# Altium footprint library Diodo.PcbLib: 39 footprints (part 2 of 3)
Each footprint in its own frame and in the unit in brackets; x right, y up, seen from the top. Pads: shape width x height; smd on the part's side, far side on the other; paste and mask are expansions set on the pad; w line width, h text height; cw(c..) or ccw(c..) is an arc to the next point about the centre after c.
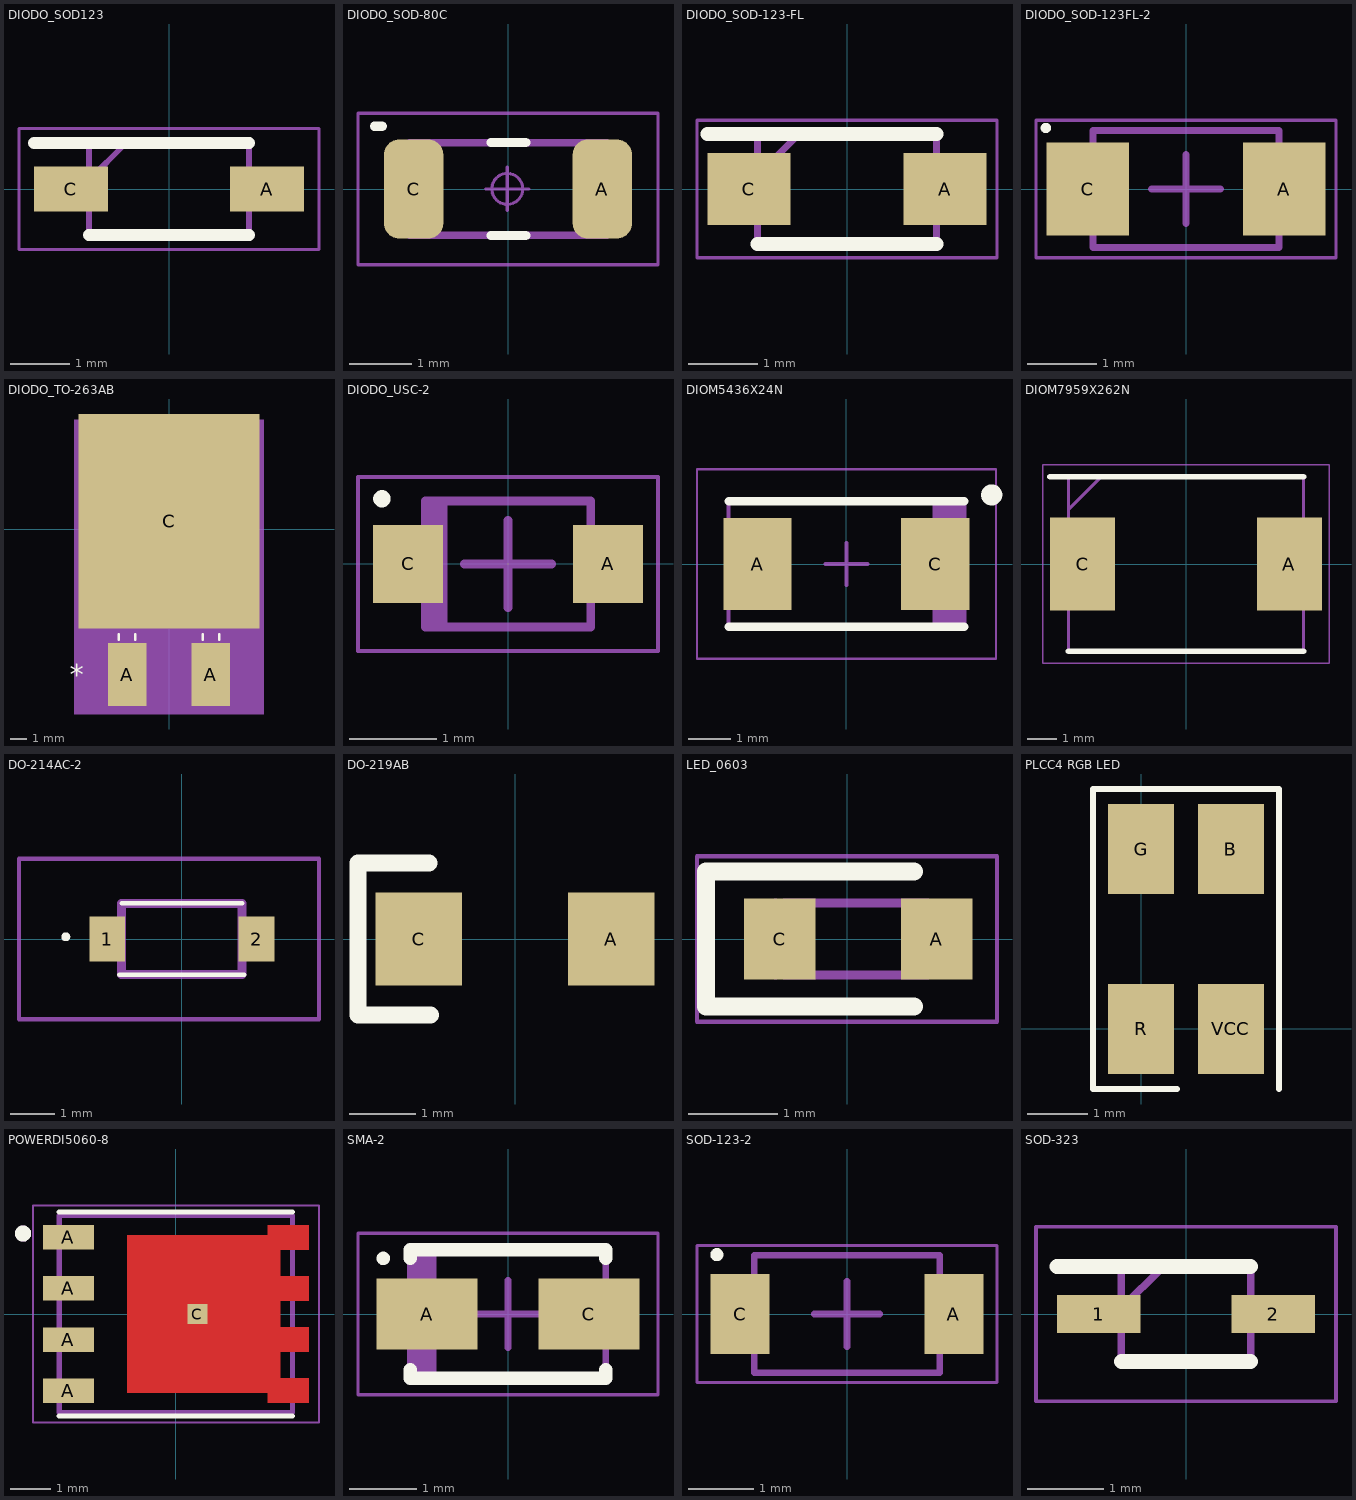
[diagram p1: the footprints below, top view; thin cyan lines are the x and y axes]

## DIODO_SOD123 [mm]
pads (2):
  rect 1.25x0.75 smd: A(1.65,0) C(-1.65,0)
Top Overlay:
  lines w0.2: -2.275,0.775 1.35,0.775 ; -1.35,-0.775 1.35,-0.775
Mechanical 13:
  lines w0.1: -1.35,0.15 -0.725,0.775 ; -1.35,-0.775 -1.35,0.775 1.35,0.775 1.35,-0.775 -1.35,-0.775
Mechanical 15:
  lines w0.05: -2.525,-1.016 -2.525,1.016 2.525,1.016 2.525,-1.016 -2.525,-1.016
3D body "MMSZ5226B-E3-08.stp": height 1.35, standoff 0, extent -1.85,-0.775 1.85,0.775

## DIODO_SOD-80C [mm]
pads (2):
  rrect50% 0.96x1.6 smd: A(1.525,0) C(-1.525,0)
Top Overlay:
  lines w0.15: -2.159,1.016 -2.032,1.016 ; -0.275,-0.75 0.285,-0.75 ; -0.275,0.75 0.285,0.75
Mechanical 11:
  lines w0.12: -1.587,-0.75 -1.587,0.75 1.6,0.75 1.6,-0.75 -1.587,-0.75
Mechanical 12:
  lines w0.025: -1.537,-0.568 -1.537,0.682 ; -1.537,-0.568 -1.137,-0.568 -1.137,0.682 -1.537,0.682 ; -1.537,-0.568 -1.537,0.682
Mechanical 15:
  circle w0.05: c-0.012,0.001 r0.25
  lines w0.05: -0.362,0.001 0.338,0.001 ; -0.012,-0.349 -0.012,0.351 ; -2.425,-1.225 -2.425,1.225 2.425,1.225 2.425,-1.225 -2.425,-1.225
3D body "User Library-MiniMelf-2.STEP": height 1.6, standoff 0, extent -1.88,-0.8 1.82,0.8

## DIODO_SOD-123-FL [mm]
pads (2):
  rect 1.21x1.04 smd: A(1.425,0) C(-1.425,0)
Top Overlay:
  lines w0.2: -2.03,0.8 1.3,0.8 ; -1.3,-0.8 1.3,-0.8
Mechanical 13:
  lines w0.1: -1.3,0.195 -0.695,0.8 ; -1.3,-0.8 1.3,-0.8 1.3,0.8 -1.3,0.8 -1.3,-0.8
Mechanical 15:
  lines w0.05: -2.18,-1 2.18,-1 2.18,1 -2.18,1 -2.18,-1
3D body "RB060MM-30TFTR.stp": height 0.9, standoff 0, extent -1.75,-0.8 1.75,0.8

## DIODO_SOD-123FL-2 [mm]
height 0.9
pads (2):
  rect 1.2x1.35 smd: A(1.425,0) C(-1.425,0)
Top Overlay:
  lines w0.1: -2.01,0.873 cw(c-2.032,0.885) -2.007,0.889
Mechanical 13:
  lines w0.1: -1.35,-0.85 1.35,-0.85 1.35,0.85 -1.35,0.85 -1.35,-0.85
Mechanical 15:
  lines w0.05: -2.175,-1 2.175,-1 2.175,1 -2.175,1 -2.175,-1
  lines w0.1: -0.5,0 0.5,0 ; 0,-0.5 0,0.5
3D body "SODFL350X90-2N.step": height 0.9, standoff 0, extent -1.75,-0.85 1.75,0.85

## DIODO_TO-263AB [mm]
pads (3):
  rect 2.32x3.81 smd paste+0 mask+0: A(-2.54,-8.814) A(2.54,-8.814)
  rect 11x13 smd paste+0 mask+0: C(0,0.5)
Top Overlay:
  lines w0.152: -3.035,-6.706 -3.035,-6.353 ; -2.045,-6.706 -2.045,-6.353 ; 2.045,-6.706 2.045,-6.353 ; 3.035,-6.706 3.035,-6.353
  text "*" at -6.032,-9.449 h1.27
Mechanical 5:
  region: -5.74,6.655 5.74,6.655 5.74,-11.201 -5.74,-11.201
Mechanical 13:
  lines w0.025: -0.889,-5.664 -0.889,-7.442 0.889,-7.442 0.889,-5.664 ; -5.334,-5.664 5.334,-5.664 5.334,5.664 -5.334,5.664 -5.334,-5.664 ; -3.035,-10.211 -3.035,-5.664 -2.045,-5.664 -2.045,-10.211 -3.035,-10.211 ; 2.045,-10.211 2.045,-5.664 3.035,-5.664 3.035,-10.211 2.045,-10.211
  text "*" at -2.857,-6.045 h1.27
Mechanical 15:
  region: -3.289,-6.274 -5.639,-6.274 -5.639,6.274 5.639,6.274 5.639,-6.274 3.289,-6.274 3.289,-10.82 1.791,-10.82 1.791,-7.315 -1.791,-7.315 -1.791,-10.82 -3.289,-10.82
  lines w0.152: -5.639,-6.274 -5.639,6.274 5.639,6.274 5.639,-6.274 3.289,-6.274 3.289,-10.82 1.791,-10.82 1.791,-7.315 -1.791,-7.315 -1.791,-10.82 -3.289,-10.82 -3.289,-6.274 -5.639,-6.274
3D body: height 0.25, standoff 0, extent 0,0 0.254,0.254
3D body "D2PAK_VIS.step": height 4.83, standoff -0.05, extent -5.334,-8.268 5.334,5.667

## DIODO_USC-2 [mm]
height 1.1
pads (2):
  rect 0.8x0.9 smd: A(1.15,0) C(-1.15,0)
Top Overlay:
  circle w0.1: c-1.45,0.75 r0.05
Mechanical 13:
  rectangle: -0.95,-0.725 -0.694,0.725
  lines w0.1: -0.95,-0.725 0.95,-0.725 0.95,0.725 -0.95,0.725 -0.95,-0.725
Mechanical 15:
  lines w0.05: -1.725,-1 1.725,-1 1.725,1 -1.725,1 -1.725,-1
  lines w0.1: -0.5,0 0.5,0 ; 0,-0.5 0,0.5
3D body "USC-2.step": height 1.1, standoff 0, extent -1.17,-0.725 1.17,0.725

## DIOM5436X24N [mm] "Molded Diode, 2-Leads, Body 5,35x3,63mm, IPC Medium Density"
height 2.45
pads (2):
  rect 1.62x2.18 smd: A(-2.11,0) C(2.11,0)
Top Overlay:
  circle w0.25: c3.45,1.64 r0.125
  lines w0.2: -2.8,-1.49 2.8,-1.49 ; -2.8,1.49 2.8,1.49
Mechanical 13:
  rectangle: 2.047,-1.524 2.8,1.524
  lines w0.1: -2.8,-1.524 -2.8,1.524 2.8,1.524 2.8,-1.524 -2.8,-1.524
Mechanical 15:
  lines w0.05: -3.55,-2.25 -3.55,2.25 3.55,2.25 3.55,-2.25 -3.55,-2.25
  lines w0.1: -0.5,0 0.5,0 ; 0,-0.5 0,0.5
3D body "STPS1H100AY.stp": height 2.32, standoff -0.02, extent -2.55,-1.275 2.55,1.275

## DIOM7959X262N [mm]
pads (2):
  rect 2.2x3.15 smd: A(3.5,0) C(-3.5,0)
Top Overlay:
  lines w0.2: -4.6,2.952 3.97,2.952 ; -3.97,-2.952 3.97,-2.952
Mechanical 13:
  lines w0.1: -3.97,1.852 -2.87,2.952 ; -3.97,-2.952 3.97,-2.952 3.97,2.952 -3.97,2.952 -3.97,-2.952
Mechanical 15:
  lines w0.05: -4.85,-3.36 4.85,-3.36 4.85,3.36 -4.85,3.36 -4.85,-3.36
3D body "SL44-E3_57T.stp": height 2.62, standoff 0, extent -3.97,-2.953 3.97,2.953

## DO-214AC-2 [mm]
pads (2):
  rect 0.8x1 smd: 1(-1.675,0) 2(1.675,0)
Top Overlay:
  lines w0.1: -1.4,-0.8 1.4,-0.8 ; -1.35,0.8 1.35,0.8 ; -2.6,0 ccw(c-2.6,0.05) -2.6,0.1 ccw(c-2.6,0.05) -2.6,0
Mechanical 13:
  lines w0.2: -1.35,-0.8 1.35,-0.8 1.35,0.8 -1.35,0.8 -1.35,-0.8
Mechanical 15:
  lines w0.1: -3.65,-1.8 3.075,-1.8 3.075,1.8 -3.65,1.8 -3.65,-1.8
3D body "CDBW46-G.stp": height 1.35, standoff 0, extent -1.995,-0.8 1.995,0.8

## DO-219AB [mm]
pads (2):
  rect 1.3x1.4 smd: A(1.45,0) C(-1.45,0)
Top Overlay:
  lines w0.254: -1.295,1.143 -2.311,1.143 -2.362,1.143 -2.362,-1.143 -1.27,-1.143
3D body "User Library-DO-219AB SMF.STEP": height 1.25, standoff 0, extent -1.899,-0.95 2.001,0.95

## LED_0603 [mm]
pads (2):
  rect 0.8x0.9 smd: A(1.003,0) C(-0.75,0)
Top Overlay:
  lines w0.2: 0.75,-0.753 -1.575,-0.753 -1.575,0.753 0.75,0.753
Mechanical 13:
  lines w0.1: -0.8,-0.4 -0.8,0.4 ; -0.8,0.133 -0.533,0.4 ; -0.7,-0.4 0.9,-0.4 ; -0.7,0.4 0.9,0.4 ; 0.8,-0.4 0.8,0.4
Mechanical 15:
  lines w0.05: -1.675,-0.925 -1.675,0.925 1.675,0.925 1.675,-0.925 -1.675,-0.925
3D body "150060VS75000.stp": height 0.7, standoff 0, extent -0.675,-0.4 0.925,0.4

## PLCC4 RGB LED [mm]
pads (4):
  rect 1.1x1.5 smd: B(1.5,3) G(0,3) R(0,0) VCC(1.5,0)
Top Overlay:
  lines w0.1: 0.6,-1 -0.8,-1 -0.8,4 2.3,4 2.3,-1
3D body "ASMB-MTB0-0A3A2.STEP": height 1.9, standoff 0, extent -0.65,-0.25 2.15,3.25

## POWERDI5060-8 [mm]
pads (5):
  rect 1.27x0.61 smd: A(-2.67,-1.905) A(-2.67,-0.635) A(-2.67,0.635) A(-2.67,1.905)
  rect 0.5x0.5 smd paste-1 mask+0: C(0.535,0)
Top Layer:
  region: 3.305,1.6 2.595,1.6 2.595,0.94 3.305,0.94 3.305,0.33 2.595,0.33 2.595,-0.33 3.305,-0.33 3.305,-0.94 2.595,-0.94 2.595,-1.6 3.305,-1.6 3.305,-2.21 2.285,-2.21 2.285,-1.955 -1.215,-1.955 -1.215,1.955 2.285,1.955 2.285,2.21 3.305,2.21
Top Overlay:
  circle w0.2: c-3.8,2 r0.1
  lines w0.127: -2.9,-2.53 2.9,-2.53 ; -2.9,2.53 2.9,2.53
Top Paste:
  region: 3.305,-2.21 2.6,-2.21 2.6,-1.6 3.305,-1.6
  region: 3.305,-0.94 2.6,-0.94 2.6,-0.33 3.305,-0.33
  region: 3.305,0.33 2.6,0.33 2.6,0.94 3.305,0.94
  region: 3.305,1.6 2.6,1.6 2.6,2.21 3.305,2.21
  region: 1.64,-1.235 -0.57,-1.235 -0.57,1.235 1.64,1.235
Top Solder:
  region: 3.405,1.5 2.695,1.5 2.695,1.04 3.405,1.04 3.405,0.23 2.695,0.23 2.695,-0.23 3.405,-0.23 3.405,-1.04 2.695,-1.04 2.695,-1.5 3.405,-1.5 3.405,-2.31 2.185,-2.31 2.185,-2.055 -1.315,-2.055 -1.315,2.055 2.185,2.055 2.185,2.31 3.405,2.31
Mechanical 13:
  circle w0.2: c-3.8,2 r0.1
  lines w0.127: -2.9,-2.45 2.9,-2.45 2.9,2.45 -2.9,2.45 -2.9,-2.45
Mechanical 15:
  lines w0.05: -3.555,-2.7 -3.555,2.7 3.555,2.7 3.555,-2.7 -3.555,-2.7

## SMA-2 [mm] "Molded Diode, 2-Leads, Body 2,80x1,80mm, IPC Medium Density"
height 1.1
pads (2):
  rect 1.5x1.05 smd: A(-1.2,0) C(1.2,0)
Top Overlay:
  circle w0.1: c-1.85,0.825 r0.05
  lines w0.2: -1.45,-0.825 -1.45,-0.95 1.45,-0.95 1.45,-0.825 ; -1.45,0.825 -1.45,0.95 1.45,0.95 1.45,0.825
Mechanical 13:
  rectangle: -1.45,-0.95 -1.06,0.95
  lines w0.1: -1.45,-0.95 -1.45,0.95 1.45,0.95 1.45,-0.95 -1.45,-0.95
Mechanical 15:
  lines w0.05: -2.225,-1.2 -2.225,1.2 2.225,1.2 2.225,-1.2 -2.225,-1.2
  lines w0.1: -0.5,0 0.5,0 ; 0,-0.5 0,0.5
3D body: height 1.1, standoff 0, extent -1.45,-0.95 1.45,0.95

## SOD-123-2 [mm] "Footprint MMSZ10T3G"
height 1.17
pads (2):
  rect 0.91x1.22 smd: A(1.64,0) C(-1.64,0)
Top Overlay:
  circle w0.1: c-1.995,0.91 r0.05
Mechanical 13:
  lines w0.1: -1.42,-0.9 -1.42,0.9 1.42,0.9 1.42,-0.9 -1.42,-0.9
Mechanical 15:
  lines w0.05: -2.3,-1.05 -2.3,1.05 2.3,1.05 2.3,-1.05 -2.3,-1.05
  lines w0.1: -0.5,0 0.5,0 ; 0,-0.5 0,0.5
3D body "SOD - 123.step": height 1.17, standoff 0, extent -1.855,-0.9 1.855,0.9

## SOD-323 [mm]
pads (2):
  rect 1.1x0.5 smd: 1(-1.15,0) 2(1.15,0)
Top Overlay:
  lines w0.2: -1.7,0.625 0.85,0.625 ; -0.85,-0.625 0.85,-0.625
Mechanical 13:
  lines w0.1: -0.85,0.075 -0.3,0.625 ; -0.85,-0.625 0.85,-0.625 0.85,0.625 -0.85,0.625 -0.85,-0.625
Mechanical 15:
  lines w0.05: -1.975,-1.15 1.975,-1.15 1.975,1.15 -1.975,1.15 -1.975,-1.15
3D body "1N4148WX-TP.stp": height 1.15, standoff 0, extent -1.25,-0.625 1.25,0.625